# Altium schematic symbol library SCH - POWER - SWITCHMODE - TI TPS61081_DRC_10.SchLib: 1 symbol
Pins are listed as number, name and electrical type; pins without a type are passive.

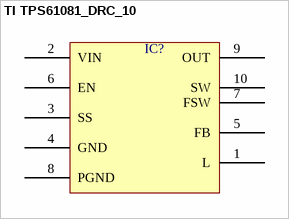
[diagram p0: symbol TI TPS61081_DRC_10]

## TI TPS61081_DRC_10
designator IC?  (value not drawn)
pins: 1 L, 2 VIN, 3 SS, 4 GND, 5 FB, 6 EN, 7 FSW, 8 PGND, 9 OUT, 10 SW